# Altium integrated library C3225X7R1H106M250AC.IntLib: 1 symbol
Pins are listed as number, name and electrical type; pins without a type are passive.

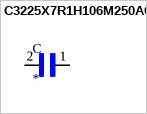
[diagram p0: symbol C3225X7R1H106M250AC]

## C3225X7R1H106M250AC
designator C
10ÂµF Â±20% 50V Ceramic Capacitor X7R 1210 _3225 Metric_; MP: C3225X7R1H106M250AC; MF: TDK; Value: *; Digi-Key_Purchase_URL: https://www.digikey.com/product-detail/en/tdk-corporation/C3225X7R1H106M250AC/445-14933-1-ND/3956599?utm_source=snapeda&utm_medium=aggregator&utm_campaign=symbol; SnapEDA_Link: https://www.snapeda.com/parts/C3225X7R1H106M250AC/TDK/view-part/667739/?ref=snap; Digi-Key_Part_Number: 445-14933-1-ND; Package: 1210 TDK
footprint CAPC3225X280N
pins: 1, 2